# Altium schematic symbol library Switch_E-Switch_TL1015AF160QG_eec.SchLib: 1 symbol
Pins are listed as number, name and electrical type; pins without a type are passive.

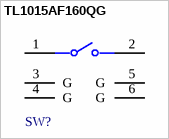
[diagram p0: symbol TL1015AF160QG]

## TL1015AF160QG
designator SW?  (value not drawn)
pins: 1, 2, 3 G, 4 G, 5 G, 6 G